# EAGLE library part M06X2 (library hybridpi)
0.1" Header 6x2 SMD Female Package: NPTC062KFMS-RC <http://www.sullinscorp.com/drawings/103_NPxCxx2KFMx-RC,_10488-G.pdf> SMD Male Package: 15-91-2120 <http://www.molex.com/pdm_docs/sd/015912120_sd.pdf>
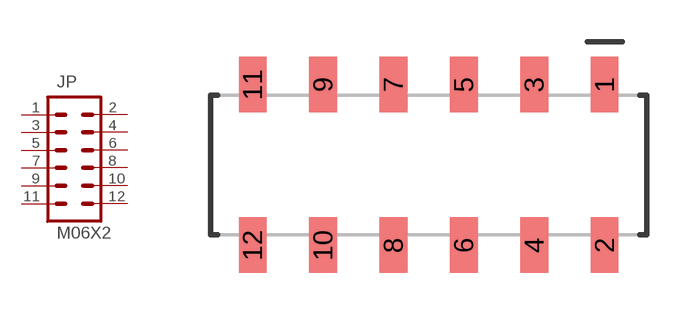
[diagram p6: symbol with the pads of 2X6-SMD; footprint 2X6-SMD]

Designator prefix JP

## M06X2-FEM-SMD (EAGLEUP: M06X2-FEM-SMD)  [2X6-SMD]
1  1  pas
2  2  pas
3  3  pas
4  4  pas
5  5  pas
6  6  pas
7  7  pas
8  8  pas
9  9  pas
10  10  pas
11  11  pas
12  12  pas

## M06X2-MAL-SMD (EAGLEUP: M06X2-MAL-SMD)  [2X6-SMD]
Pads as for 2X6-SMD

## Footprint 2X6-SMD (pad centres in mm)
smd 1 x 2: 1 6.35,2.896; 2 6.35,-2.896; 3 3.81,2.896; 4 3.81,-2.896; 5 1.27,2.896; 6 1.27,-2.896; 7 -1.27,2.896; 8 -1.27,-2.896; 9 -3.81,2.896; 10 -3.81,-2.896; 11 -6.35,2.896; 12 -6.35,-2.896